# Altium integrated library PS1440P02BT.IntLib: 1 symbol
Pins are listed as number, name and electrical type; pins without a type are passive.

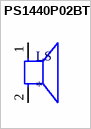
[diagram p0: symbol PS1440P02BT]

## PS1440P02BT
designator LS
Buzzers Transducer, Externally Driven Piezo 3V 4kHz 75dB @ 3V, 10cm Through Hole PC Pins; MF: TDK; MP: PS1440P02BT; Digi-Key_Part_Number: 445-5242-1-ND; Package: SOP-8 TDK; Digi-Key_Purchase_URL: https://www.digikey.com/product-detail/en/tdk-corporation/PS1440P02BT/445-5242-1-ND/2236832?utm_source=snapeda&utm_medium=aggregator&utm_campaign=symbol; SnapEDA_Link: https://www.snapeda.com/parts/PS1440P02BT/TDK/view-part/295705/?ref=snap; Value: *
footprint BUZZER_PS1440P02BT
pins: 1, 2